# EAGLE library part SHT21 (library SHT21)
Tempsensor RS No: 709-8868 MRF No: TMP112AIDRLT
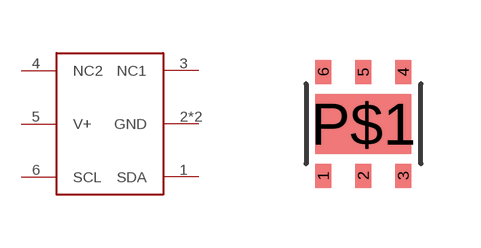
[diagram p0: symbol with the pads of SHT21; footprint SHT21]

Designator prefix -

## SHT21  [SHT21]
1  SDA
2  GND
3  NC1
4  NC2
5  V+
6  SCL
P$1  GND

## Footprint SHT21 (pad centres in mm)
smd 0.4 x 0.6: 1 -1,-1.3; 2 0,-1.3; 3 1,-1.3; 4 1,1.3; 5 0,1.3; 6 -1,1.3
smd 2.4 x 1.5: P$1 0,0